# Altium footprint library Elec2PCB_Du_An_Part1.PcbLib: 20 footprints (part 2 of 2)
Each footprint in its own frame and in the unit in brackets; x right, y up, seen from the top. Pads: shape width x height; smd on the part's side, far side on the other; paste and mask are expansions set on the pad; w line width, h text height; cw(c..) or ccw(c..) is an arc to the next point about the centre after c.
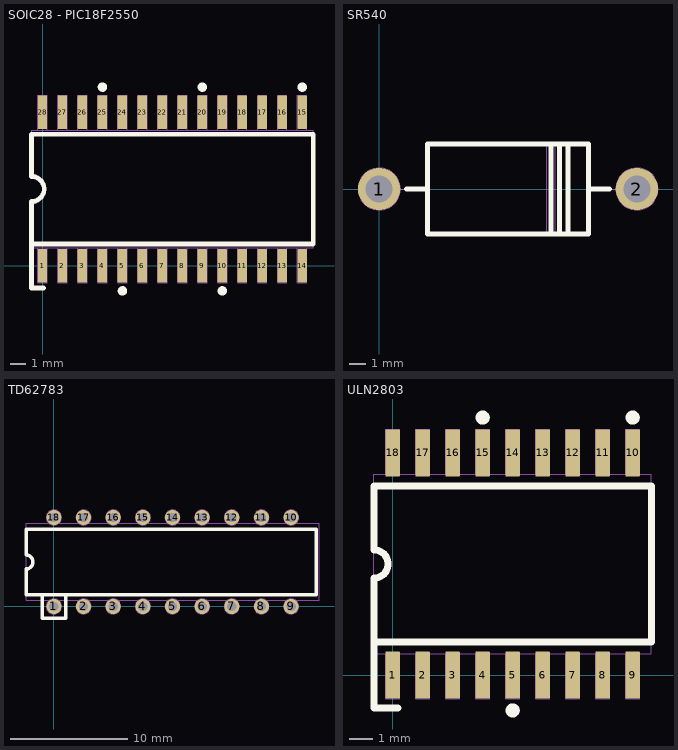
[diagram p1: the footprints below, top view; thin cyan lines are the x and y axes]

## SOIC28 - PIC18F2550 [mm] "SOIC 28-Leads, Body 17.9x10.3mm (max), Pitch 1.27mm"
height 2.65
pads (28):
  rrect20% 0.6x2.135 smd paste+0 mask+0.1: 1(0,0) 2(1.27,0) 3(2.54,0) 4(3.81,0) 5(5.08,0) 6(6.35,0) 7(7.62,0) 8(8.89,0) 9(10.16,0) 10(11.43,0) 11(12.7,0) 12(13.97,0) 13(15.24,0) 14(16.51,0) 15(16.51,9.765) 16(15.24,9.765) 17(13.97,9.765) 18(12.7,9.765) 19(11.43,9.765) 20(10.16,9.765) 21(8.89,9.765) 22(7.62,9.765) 23(6.35,9.765) 24(5.08,9.765) 25(3.81,9.765) 26(2.54,9.765) 27(1.27,9.765) 28(0,9.765)
Top Overlay:
  circle w0.3: c3.81,11.359 r0.15
  circle w0.3: c10.16,11.359 r0.15
  circle w0.3: c16.51,11.359 r0.15
  circle w0.3: c11.43,-1.595 r0.15
  circle w0.3: c5.08,-1.595 r0.15
  lines w0.3: -0.695,4.06 -0.695,1.386 ; -0.695,4.082 ccw(c-0.695,4.882) -0.695,5.683 ; -0.695,5.704 -0.695,8.371 17.205,8.371 17.205,1.386 -0.695,1.386 ; 0.067,-1.408 -0.695,-1.408 -0.695,1.386
Mechanical 1:
  lines w0.05: 17.205,4.882 17.205,8.632 ; -0.3,1.132 0.3,1.132 ; -0.3,1.132 0.3,1.132 ; -0.3,1.132 0.3,1.132 ; -0.3,1.132 -0.3,-1.082 0.3,-1.082 0.3,1.132 ; -0.3,8.632 -0.3,10.847 0.3,10.847 0.3,8.632 ; -0.3,8.632 0.3,8.632 ; -0.3,8.632 0.3,8.632 ; 0.97,1.132 1.57,1.132 ; 0.97,1.132 1.57,1.132 ; 0.97,1.132 0.97,-1.082 1.57,-1.082 1.57,1.132 ; 0.97,8.632 0.97,10.847 1.57,10.847 1.57,8.632 ; 0.97,8.632 1.57,8.632 ; 0.97,8.632 1.57,8.632 ; 2.24,1.132 2.84,1.132 ; 2.24,1.132 2.84,1.132 ; 2.24,1.132 2.24,-1.082 2.84,-1.082 2.84,1.132 ; 2.24,8.632 2.24,10.847 2.84,10.847 2.84,8.632 ; 2.24,8.632 2.84,8.632 ; 2.24,8.632 2.84,8.632 ; 3.51,1.132 4.11,1.132 ; 3.51,1.132 4.11,1.132 ; 3.51,1.132 3.51,-1.082 4.11,-1.082 4.11,1.132 ; 3.51,8.632 3.51,10.847 4.11,10.847 4.11,8.632 ; 3.51,8.632 4.11,8.632 ; 3.51,8.632 4.11,8.632 ; 4.78,1.132 5.38,1.132 ; 4.78,1.132 5.38,1.132 ; 4.78,1.132 4.78,-1.082 5.38,-1.082 5.38,1.132 ; 4.78,8.632 4.78,10.847 5.38,10.847 5.38,8.632 ; 4.78,8.632 5.38,8.632 ; 4.78,8.632 5.38,8.632 ; 6.05,1.132 6.65,1.132 ; 6.05,1.132 6.65,1.132 ; 6.05,1.132 6.05,-1.082 6.65,-1.082 6.65,1.132 ; 6.05,8.632 6.05,10.847 6.65,10.847 6.65,8.632 ; 6.05,8.632 6.65,8.632 ; 6.05,8.632 6.65,8.632 ; 7.32,1.132 7.92,1.132 ; 7.32,1.132 7.92,1.132 ; 7.32,1.132 7.32,-1.082 7.92,-1.082 7.92,1.132 ; 7.32,8.632 7.32,10.847 7.92,10.847 7.92,8.632 ; 7.32,8.632 7.92,8.632 ; 7.32,8.632 7.92,8.632 ; 8.59,1.132 9.19,1.132 ; 8.59,1.132 9.19,1.132 ; 8.59,1.132 8.59,-1.082 9.19,-1.082 9.19,1.132 ; 8.59,8.632 8.59,10.847 9.19,10.847 9.19,8.632 ; 8.59,8.632 9.19,8.632 ; 8.59,8.632 9.19,8.632 ; 9.86,1.132 10.46,1.132 ; 9.86,1.132 10.46,1.132 ; 9.86,1.132 9.86,-1.082 10.46,-1.082 10.46,1.132 ; 9.86,8.632 9.86,10.847 10.46,10.847 10.46,8.632 ; 9.86,8.632 10.46,8.632 ; 9.86,8.632 10.46,8.632 ; 11.13,1.132 11.73,1.132 ; 11.13,1.132 11.73,1.132 ; 11.13,1.132 11.13,-1.082 11.73,-1.082 11.73,1.132 ; 11.13,8.632 11.13,10.847 11.73,10.847 11.73,8.632 ; 11.13,8.632 11.73,8.632 ; 11.13,8.632 11.73,8.632 ; 12.4,1.132 13,1.132 ; 12.4,1.132 13,1.132 ; 12.4,1.132 12.4,-1.082 13,-1.082 13,1.132 ; 12.4,8.632 12.4,10.847 13,10.847 13,8.632 ; 12.4,8.632 13,8.632 ; 12.4,8.632 13,8.632 ; 13.67,1.132 14.27,1.132 ; 13.67,1.132 14.27,1.132 ; 13.67,1.132 13.67,-1.082 14.27,-1.082 14.27,1.132 ; 13.67,8.632 13.67,10.847 14.27,10.847 14.27,8.632 ; 13.67,8.632 14.27,8.632 ; 13.67,8.632 14.27,8.632 ; 14.94,1.132 15.54,1.132 ; 14.94,1.132 15.54,1.132 ; 14.94,1.132 14.94,-1.082 15.54,-1.082 15.54,1.132 ; 14.94,8.632 14.94,10.847 15.54,10.847 15.54,8.632 ; 14.94,8.632 15.54,8.632 ; 14.94,8.632 15.54,8.632 ; 16.21,1.132 16.81,1.132 ; 16.21,1.132 16.81,1.132 ; 16.21,1.132 16.21,-1.082 16.81,-1.082 16.81,1.132 ; 16.21,8.632 16.21,10.847 16.81,10.847 16.81,8.632 ; 16.21,8.632 16.81,8.632 ; 16.21,8.632 16.81,8.632 ; 16.21,8.632 16.81,8.632 ; 17.205,8.632 -0.695,8.632 -0.695,5.683 cw(c-0.695,4.882) -0.695,4.082 -0.695,1.132 17.205,1.132 17.205,8.632
  text "1" at -0.06,1.513 h0.6
  text "14" at 16.002,1.453 h0.6
  text "15" at 16.002,7.676 h0.6
  text "28" at -0.381,7.676 h0.6
3D body "SOIC28.STEP": height 2.73, standoff -0.03, extent -0.695,-0.198 17.205,10.102

## SR540 [mm] "Diode SCHOTTKY BARRIER RECTIFIER Reverse Voltage SR540"
height 5.6
pads (2):
  round 2.5 hole 1.6 paste+0 mask+0.1: 1(0,0) 2(15.24,0)
Top Overlay:
  lines w0.3: 1.62,0 2.87,0 ; 10.16,-2.54 10.16,2.65 ; 10.668,-2.54 10.668,2.65 ; 11.176,-2.54 11.176,2.65 ; 12.37,0 13.62,0 ; 2.87,-2.65 12.37,-2.65 12.37,2.65 2.87,2.65 2.87,-2.65
Mechanical 1:
  circle w0.05: c15.24,0 r1.25
  circle w0.05: c0,0 r1.25
  lines w0.05: 1.25,0 2.87,0 ; 9.906,-2.65 9.906,2.65 ; 10.16,-2.65 10.16,2.65 ; 10.414,-2.65 10.414,2.65 ; 10.668,-2.65 10.668,2.65 ; 12.37,0 13.97,0 ; 2.87,-2.65 12.37,-2.65 12.37,2.65 2.87,2.65 2.87,-2.65
  text "K" at 14.986,-0.508 h1
  text "A" at -0.254,-0.508 h1
3D body "User Library-DO-15-60.STEP": height 3.53, standoff -2, extent -0.525,-1.748 15.765,1.749

## TD62783 [mm] "DIP, 18 Lead, Pitch 2.54mm"
height 4.45
pads (18):
  round 1.3 hole 0.8 paste+0 mask+0.1: 1(0,0) 2(2.54,0) 3(5.08,0) 4(7.62,0) 5(10.16,0) 6(12.7,0) 7(15.24,0) 8(17.78,0) 9(20.32,0) 10(20.32,7.62) 11(17.78,7.62) 12(15.24,7.62) 13(12.7,7.62) 14(10.16,7.62) 15(7.62,7.62) 16(5.08,7.62) 17(2.54,7.62) 18(0,7.62)
Top Overlay:
  lines w0.3: -1,1.016 -1,-1 0.654,-1 1,-1 1,1.016 ; -2.39,1.016 22.46,1.016 22.46,6.604 -2.39,6.604 -2.39,4.41 cw(c-2.39,3.81) -2.39,3.21 -2.39,1.016
Mechanical 1:
  circle w0.05: c20.32,7.62 r0.65
  circle w0.05: c17.78,7.62 r0.65
  circle w0.05: c15.24,7.62 r0.65
  circle w0.05: c12.7,7.62 r0.65
  circle w0.05: c10.16,7.62 r0.65
  circle w0.05: c7.62,7.62 r0.65
  circle w0.05: c5.08,7.62 r0.65
  circle w0.05: c2.54,7.62 r0.65
  circle w0.05: c0,7.62 r0.65
  circle w0.05: c20.32,0 r0.65
  circle w0.05: c17.78,0 r0.65
  circle w0.05: c15.24,0 r0.65
  circle w0.05: c12.7,0 r0.65
  circle w0.05: c10.16,0 r0.65
  circle w0.05: c7.62,0 r0.65
  circle w0.05: c5.08,0 r0.65
  circle w0.05: c2.54,0 r0.65
  circle w0.05: c0,0 r0.65
  lines w0.05: -2.39,4.41 cw(c-2.39,3.81) -2.39,3.21 ; -2.39,3.21 -2.39,7.11 22.71,7.11 22.71,0.51 -2.39,0.51 -2.39,3.21
  text "1" at -0.127,1.27 h0.6
  text "9" at 20.32,1.27 h0.6
  text "10" at 19.812,5.715 h0.6
  text "18" at -0.508,5.715 h0.6
3D body "DIP18 -300mil.STEP": height 5.08, standoff -2.49, extent -1.335,-0.125 21.655,7.745

## ULN2803 [mm] "SOIC, 8- Leads, Body 11.6x7.5 (max), Pitch 1.27mm"
height 2.65
pads (18):
  rrect10% 0.6x2 smd paste+0 mask+0.07: 1(0,0) 2(1.27,0) 3(2.54,0) 4(3.81,0) 5(5.08,0) 6(6.35,0) 7(7.62,0) 8(8.89,0) 9(10.16,0) 10(10.16,9.4) 11(8.89,9.4) 12(7.62,9.4) 13(6.35,9.4) 14(5.08,9.4) 15(3.81,9.4) 16(2.54,9.4) 17(1.27,9.4) 18(0,9.4)
Top Overlay:
  circle w0.3: c5.08,-1.5 r0.15
  circle w0.3: c3.81,10.9 r0.15
  circle w0.3: c10.16,10.9 r0.15
  lines w0.3: 0.221,-1.396 -0.795,-1.396 -0.795,1.398 ; -0.795,1.398 10.955,1.398 10.955,8.002 -0.795,8.002 -0.795,5.3 cw(c-0.795,4.7) -0.795,4.1 -0.795,1.398
Mechanical 1:
  lines w0.05: -0.795,4.1 ccw(c-0.795,4.7) -0.795,5.3 ; -0.795,0.9 10.955,0.9 10.955,8.5 -0.795,8.5 -0.795,0.9 ; -0.3,-1 0.3,-1 0.3,0.9 -0.3,0.9 -0.3,-1 ; -0.3,8.5 0.3,8.5 0.3,10.4 -0.3,10.4 -0.3,8.5 ; 0.97,-1 0.97,0.9 1.57,0.9 1.57,-1 0.97,-1 ; 0.97,8.5 1.57,8.5 1.57,10.4 0.97,10.4 0.97,8.5 ; 2.24,-1 2.24,0.9 2.84,0.9 2.84,-1 2.24,-1 ; 2.24,8.5 2.84,8.5 2.84,10.4 2.24,10.4 2.24,8.5 ; 3.51,-1 3.51,0.9 4.11,0.9 4.11,-1 3.51,-1 ; 3.51,8.5 4.11,8.5 4.11,10.4 3.51,10.4 3.51,8.5 ; 4.78,-1 4.78,0.9 5.38,0.9 5.38,-1 4.78,-1 ; 4.78,8.5 5.38,8.5 5.38,10.4 4.78,10.4 4.78,8.5 ; 6.05,-1 6.05,0.9 6.65,0.9 6.65,-1 6.05,-1 ; 6.05,8.5 6.65,8.5 6.65,10.4 6.05,10.4 6.05,8.5 ; 7.32,-1 7.32,0.9 7.92,0.9 7.92,-1 7.32,-1 ; 7.32,8.5 7.92,8.5 7.92,10.4 7.32,10.4 7.32,8.5 ; 8.59,-1 8.59,0.9 9.19,0.9 9.19,-1 8.59,-1 ; 8.59,8.5 9.19,8.5 9.19,10.4 8.59,10.4 8.59,8.5 ; 9.86,-1 9.86,0.9 10.46,0.9 10.46,-1 9.86,-1 ; 9.86,8.5 9.86,10.4 10.46,10.4 10.46,8.5 9.86,8.5
  text "18" at -0.287,7.748 h0.5
  text "10" at 9.873,7.748 h0.5
  text "9" at 9.873,1.398 h0.5
  text "1" at -0.033,1.398 h0.5
3D body "SW3dPS-SOIC18-300.STEP": height 2.65, standoff 0, extent -0.685,-0.45 10.845,9.85